# EAGLE library part AX5043 (library kj4qlp)
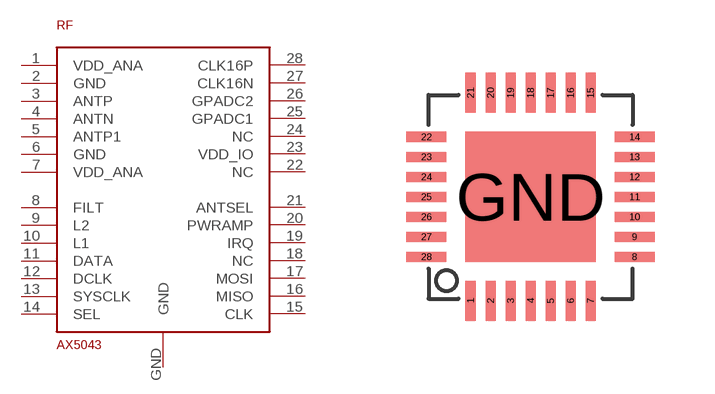
[diagram p1: symbol with the pads of QFN28-5X5; footprint QFN28-5X5]

Designator prefix RF

## AX5043  [QFN28-5X5]
1  VDD_ANA
2  GND
3  ANTP
4  ANTN
5  ANTP1
6  GND
7  VDD_ANA
8  FILT
9  L2
10  L1
11  DATA
12  DCLK
13  SYSCLK
14  SEL
15  CLK
16  MISO
17  MOSI
18  NC
19  IRQ
20  PWRAMP
21  ANTSEL
22  NC
23  VDD_IO
24  NC
25  GPADC1
26  GPADC2
27  CLK16N
28  CLK16P
GND  GND

## Footprint QFN28-5X5 (pad centres in mm)
Pads size: 0.25x0.6, thermal pad: 3.25x3.25 Pads modified to be longer For AX5043 RFIC
smd 0.25 x 1: 1 -1.5,-2.6; 2 -1,-2.6; 3 -0.5,-2.6; 4 0,-2.6; 5 0.5,-2.6; 6 1,-2.6; 7 1.5,-2.6; 15 1.5,2.6; 16 1,2.6; 17 0.5,2.6; 18 0,2.6; 19 -0.5,2.6; 20 -1,2.6; 21 -1.5,2.6
smd 1 x 0.25: 8 2.6,-1.5; 9 2.6,-1; 10 2.6,-0.5; 11 2.6,0; 12 2.6,0.5; 13 2.6,1; 14 2.6,1.5; 22 -2.6,1.5; 23 -2.6,1; 24 -2.6,0.5; 25 -2.6,0; 26 -2.6,-0.5; 27 -2.6,-1; 28 -2.6,-1.5
smd 3.25 x 3.25: GND 0,0